# EAGLE library part HDC2080 (library ExtraParts)
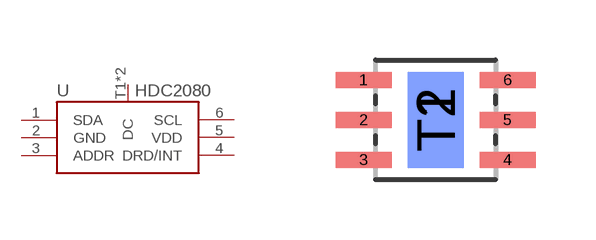
[diagram p8: symbol with the pads of PWSON-6; footprint PWSON-6]

Designator prefix -

## HDC2080  [PWSON-6]
1  SDA
2  GND  pwr
3  ADDR
4  DRD/INT
5  VDD  pwr
6  SCL
T1  DC  nc
T2  DC  nc

## Footprint PWSON-6 (pad centres in mm)
smd 1.4 x 0.4: 1 -1.8,1; 2 -1.8,0; 3 -1.8,-1; 4 1.8,-1; 5 1.8,0; 6 1.8,1
smd 1.4 x 2.4: T1 0,0
smd 1.4 x 2.4 bottom: T2 0,0